# Altium schematic symbol library Motors Brushless.SchLib: 2 symbols
Pins are listed as number, name and electrical type; pins without a type are passive.

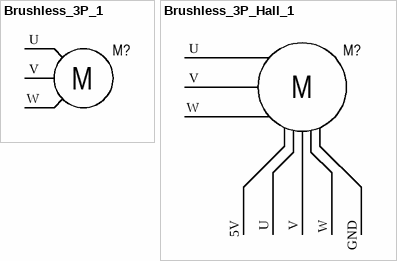
[diagram p0: symbols Brushless_3P_1 to Brushless_3P_Hall_1]

## Brushless_3P_1
designator M?
Brushless 3 phases; Component: Motor Brushed; Group: Mechanical; Power: W; Operating temperature: -°C +°C; Mounting type: Through hole; Dimension: .0mm x .0mm; Height: .0mm
pins: U, V, W
text: M

## Brushless_3P_Hall_1
designator M?
Brushless 3 phases hall sensors; Component: Motor Brushed; Group: Mechanical; Power: W; Operating temperature: -°C +°C; Mounting type: Through hole; Dimension: .0mm x .0mm; Height: .0mm
pins: 5V, GND, U, U, V, V, W, W
text: M